# Altium footprint library Molex Footprints.PcbLib: 498 footprints (part 23 of 32)
Each footprint in its own frame and in the unit in brackets; x right, y up, seen from the top. Pads: shape width x height; smd on the part's side, far side on the other; paste and mask are expansions set on the pad; w line width, h text height; cw(c..) or ccw(c..) is an arc to the next point about the centre after c.
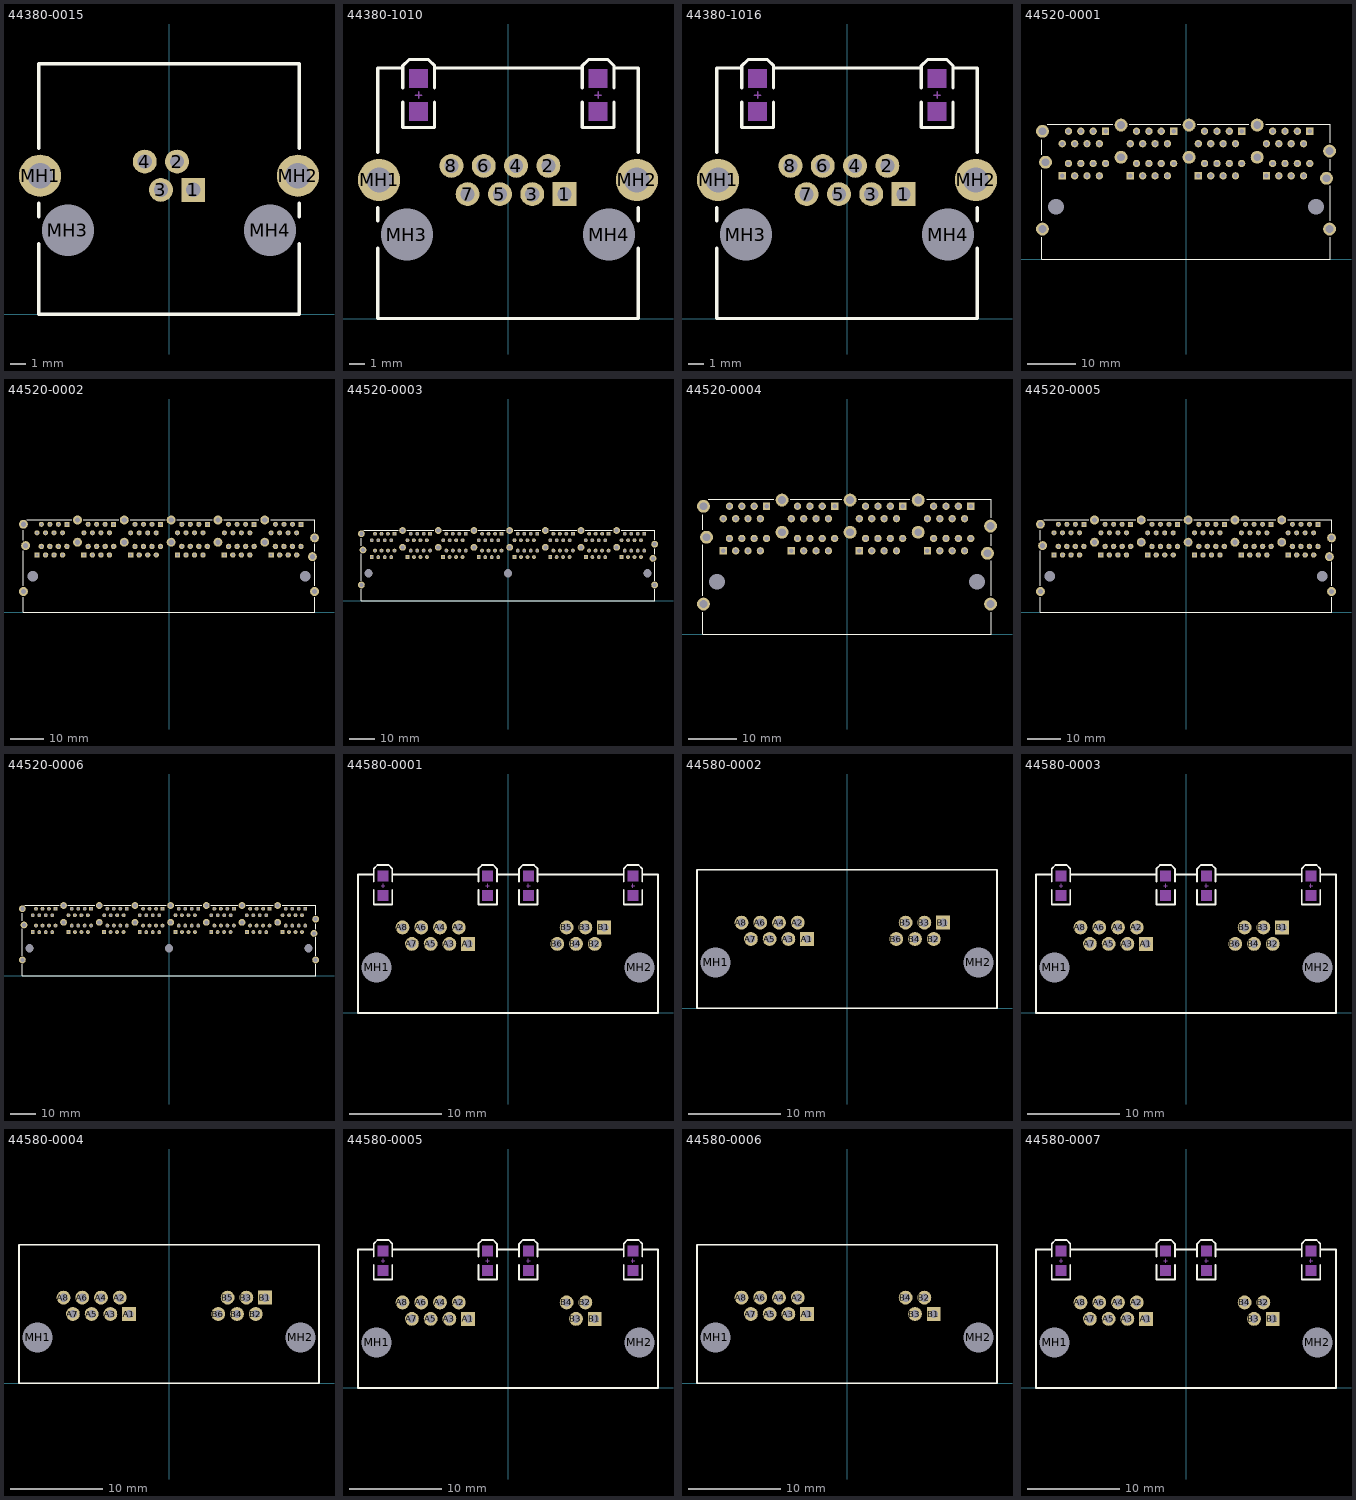
[diagram p22: the footprints below, top view; thin cyan lines are the x and y axes]

## 44380-0015 [mm] "Connector; PCB Jack, Thru-Hole; 1-Port, 6 Positions, 4 Loaded; Shielded without Lightpipes; Right Angle"
height 13.53
pads (8):
  rect 1.5x1.5 hole 0.9: 1(1.524,7.82)
  round 1.5 hole 0.9: 2(0.508,9.598) 3(-0.508,7.82) 4(-1.524,9.598)
  round 2.65 hole 1.6: MH1(-8.103,8.709) MH2(8.103,8.709)
  round 2.95 hole 3.25 unplated: MH3(-6.35,5.28) MH4(6.35,5.28)
Top Overlay:
  lines w0.2: -8.19,4.434 -8.19,0 8.19,0 8.19,4.434 ; -8.19,6.126 -8.19,6.986 ; -8.19,10.432 -8.19,15.75 8.19,15.75 8.19,10.432 ; 8.19,6.126 8.19,6.986

## 44380-1010 [mm] "Connector; PCB Jack, Thru-Hole; 1-Port, 8 Positions, 8 Loaded; Shielded with Lightpipes; Right Angle"
height 13.53
pads (12):
  rect 1.5x1.5 hole 0.9: 1(3.556,7.82)
  round 1.5 hole 0.9: 2(2.54,9.598) 3(1.524,7.82) 4(0.508,9.598) 5(-0.508,7.82) 6(-1.524,9.598) 7(-2.54,7.82) 8(-3.556,9.598)
  round 2.65 hole 1.6: MH1(-8.103,8.709) MH2(8.103,8.709)
  round 2.95 hole 3.25 unplated: MH3(-6.35,5.28) MH4(6.35,5.28)
Top Overlay:
  lines w0.2: -8.19,4.434 -8.19,0 8.19,0 8.19,4.434 ; -8.19,6.126 -8.19,6.986 ; -8.19,10.432 -8.19,15.75 -6.613,15.75 ; -6.613,13.602 -6.613,12.002 -4.613,12.002 -4.613,13.602 ; -6.613,14.484 -6.613,15.884 -6.213,16.284 -5.013,16.284 -4.613,15.884 -4.613,14.484 ; -4.613,15.75 4.664,15.75 ; 4.664,13.602 4.664,12.002 6.664,12.002 6.664,13.602 ; 4.664,14.484 4.664,15.884 5.064,16.284 6.264,16.284 6.664,15.884 6.664,14.484 ; 6.664,15.75 8.19,15.75 8.19,10.432 ; 8.19,6.126 8.19,6.986
Mechanical 1:
  rectangle: -6.213,12.402 -5.013,13.602
  rectangle: -6.213,14.484 -5.013,15.684
  rectangle: 5.064,12.402 6.264,13.602
  rectangle: 5.064,14.484 6.264,15.684
  lines w0.1: -5.813,14.043 -5.613,14.043 ; -5.613,13.843 -5.613,14.043 ; -5.613,14.243 -5.613,14.043 ; -5.413,14.043 -5.613,14.043 ; 5.464,14.043 5.664,14.043 ; 5.664,13.843 5.664,14.043 ; 5.664,14.243 5.664,14.043 ; 5.864,14.043 5.664,14.043

## 44380-1016 [mm] "Connector; PCB Jack, Thru-Hole; 1-Port, 8 Positions, 8 Loaded; Shielded with Lightpipes; Right Angle"
height 13.53
pads (12):
  rect 1.5x1.5 hole 0.9: 1(3.556,7.82)
  round 1.5 hole 0.9: 2(2.54,9.598) 3(1.524,7.82) 4(0.508,9.598) 5(-0.508,7.82) 6(-1.524,9.598) 7(-2.54,7.82) 8(-3.556,9.598)
  round 2.65 hole 1.6: MH1(-8.103,8.709) MH2(8.103,8.709)
  round 2.95 hole 3.25 unplated: MH3(-6.35,5.28) MH4(6.35,5.28)
Top Overlay:
  lines w0.2: -8.19,4.434 -8.19,0 8.19,0 8.19,4.434 ; -8.19,6.126 -8.19,6.986 ; -8.19,10.432 -8.19,15.75 -6.613,15.75 ; -6.613,13.602 -6.613,12.002 -4.613,12.002 -4.613,13.602 ; -6.613,14.484 -6.613,15.884 -6.213,16.284 -5.013,16.284 -4.613,15.884 -4.613,14.484 ; -4.613,15.75 4.664,15.75 ; 4.664,13.602 4.664,12.002 6.664,12.002 6.664,13.602 ; 4.664,14.484 4.664,15.884 5.064,16.284 6.264,16.284 6.664,15.884 6.664,14.484 ; 6.664,15.75 8.19,15.75 8.19,10.432 ; 8.19,6.126 8.19,6.986
Mechanical 1:
  rectangle: -6.213,12.402 -5.013,13.602
  rectangle: -6.213,14.484 -5.013,15.684
  rectangle: 5.064,12.402 6.264,13.602
  rectangle: 5.064,14.484 6.264,15.684
  lines w0.1: -5.813,14.043 -5.613,14.043 ; -5.613,13.843 -5.613,14.043 ; -5.613,14.243 -5.613,14.043 ; -5.413,14.043 -5.613,14.043 ; 5.464,14.043 5.664,14.043 ; 5.664,13.843 5.664,14.043 ; 5.664,14.243 5.664,14.043 ; 5.864,14.043 5.664,14.043

## 44520-0001 [mm] "Connector; PCB Jack, Thru-Hole; 8-Port, 8 Positions, 8 Loaded; Shielded without Lightpipes; Right Angle"
height 25.41
pads (78):
  rect 1.5x1.5 hole 0.9: A1(-16.51,26.294) B1(-2.54,26.294) C1(11.43,26.294) D1(25.4,26.294) E1(-25.4,17.15) F1(-11.43,17.15) G1(2.54,17.15) H1(16.51,17.15)
  round 1.5 hole 0.9: A2(-17.78,23.754) A3(-19.05,26.294) A4(-20.32,23.754) A5(-21.59,26.294) A6(-22.86,23.754) A7(-24.13,26.294) A8(-25.4,23.754) B2(-3.81,23.754) B3(-5.08,26.294) B4(-6.35,23.754) B5(-7.62,26.294) B6(-8.89,23.754) B7(-10.16,26.294) B8(-11.43,23.754) C2(10.16,23.754) C3(8.89,26.294) C4(7.62,23.754) C5(6.35,26.294) C6(5.08,23.754) C7(3.81,26.294) C8(2.54,23.754) D2(24.13,23.754) D3(22.86,26.294) D4(21.59,23.754) D5(20.32,26.294) D6(19.05,23.754) D7(17.78,26.294) D8(16.51,23.754) E2(-24.13,19.69) E3(-22.86,17.15) E4(-21.59,19.69) E5(-20.32,17.15) E6(-19.05,19.69) E7(-17.78,17.15) E8(-16.51,19.69) F2(-10.16,19.69) F3(-8.89,17.15) F4(-7.62,19.69) F5(-6.35,17.15) F6(-5.08,19.69) F7(-3.81,17.15) F8(-2.54,19.69) G2(3.81,19.69) G3(5.08,17.15) G4(6.35,19.69) G5(7.62,17.15) G6(8.89,19.69) G7(10.16,17.15) G8(11.43,19.69) H2(17.78,19.69) H3(19.05,17.15) H4(20.32,19.69) H5(21.59,17.15) H6(22.86,19.69) H7(24.13,17.15) H8(25.4,19.69)
  round 2.65 hole 1.6: MH1(-29.464,26.294) MH2(-13.335,27.564) MH3(0.635,27.564) MH4(14.605,27.564) MH5(29.464,22.23) MH6(-28.829,19.944) MH7(-13.335,20.96) MH8(0.635,20.96) MH9(14.605,20.96) MH10(28.829,16.642) MH11(-29.464,6.228) MH12(29.464,6.228)
  round 2.95 hole 3.25 unplated: MH13(-26.67,10.8) MH14(26.67,10.8)
Top Overlay:
  lines w0.2: -29.59,4.508 -29.59,0 29.59,0 29.59,4.508 ; -29.59,7.948 -29.59,18.396 ; -29.59,21.492 -29.59,24.574 ; -28.451,27.69 -15.055,27.69 ; -11.615,27.69 -1.085,27.69 ; 2.355,27.69 12.885,27.69 ; 16.325,27.69 29.59,27.69 29.59,23.95 ; 29.59,7.948 29.59,15.094 ; 29.59,18.19 29.59,20.51

## 44520-0002 [mm] "Connector; PCB Jack, Thru-Hole; 12-Port, 8 Positions, 8 Loaded; Shielded without Lightpipes; Right Angle"
height 25.41
pads (114):
  rect 1.5x1.5 hole 0.9: A1(-30.48,26.294) B1(-16.51,26.294) C1(-2.54,26.294) D1(11.43,26.294) E1(25.4,26.294) F1(39.37,26.294)
  round 1.5 hole 0.9: A2(-31.75,23.754) A3(-33.02,26.294) A4(-34.29,23.754) A5(-35.56,26.294) A6(-36.83,23.754) A7(-38.1,26.294) A8(-39.37,23.754) B2(-17.78,23.754) B3(-19.05,26.294) B4(-20.32,23.754) B5(-21.59,26.294) B6(-22.86,23.754) B7(-24.13,26.294) B8(-25.4,23.754) C2(-3.81,23.754) C3(-5.08,26.294) C4(-6.35,23.754) C5(-7.62,26.294) C6(-8.89,23.754) C7(-10.16,26.294) C8(-11.43,23.754) D2(10.16,23.754) D3(8.89,26.294) D4(7.62,23.754) D5(6.35,26.294) D6(5.08,23.754) D7(3.81,26.294) D8(2.54,23.754) E2(24.13,23.754) E3(22.86,26.294) E4(21.59,23.754) E5(20.32,26.294) E6(19.05,23.754) E7(17.78,26.294) E8(16.51,23.754) F2(38.1,23.754) F3(36.83,26.294) F4(35.56,23.754) F5(34.29,26.294) F6(33.02,23.754) F7(31.75,26.294) F8(30.48,23.754)
  rect 1.6x1.6 hole 0.9: G1(-39.37,17.15) H1(-25.4,17.15) I1(-11.43,17.15) J1(2.54,17.15) K1(16.51,17.15) L1(30.48,17.15)
  round 1.6 hole 0.9: G2(-38.1,19.69) G3(-36.83,17.15) G4(-35.56,19.69) G5(-34.29,17.15) G6(-33.02,19.69) G7(-31.75,17.15) G8(-30.48,19.69) H2(-24.13,19.69) H3(-22.86,17.15) H4(-21.59,19.69) H5(-20.32,17.15) H6(-19.05,19.69) H7(-17.78,17.15) H8(-16.51,19.69) I2(-10.16,19.69) I3(-8.89,17.15) I4(-7.62,19.69) I5(-6.35,17.15) I6(-5.08,19.69) I7(-3.81,17.15) I8(-2.54,19.69) J2(3.81,19.69) J3(5.08,17.15) J4(6.35,19.69) J5(7.62,17.15) J6(8.89,19.69) J7(10.16,17.15) J8(11.43,19.69) K2(17.78,19.69) K3(19.05,17.15) K4(20.32,19.69) K5(21.59,17.15) K6(22.86,19.69) K7(24.13,17.15) K8(25.4,19.69) L2(31.75,19.69) L3(33.02,17.15) L4(34.29,19.69) L5(35.56,17.15) L6(36.83,19.69) L7(38.1,17.15) L8(39.37,19.69)
  round 2.65 hole 1.6: MH1(-43.434,26.294) MH2(-27.305,27.564) MH3(-13.335,27.564) MH4(0.635,27.564) MH5(14.605,27.564) MH6(28.575,27.564) MH7(43.434,22.23) MH8(-42.799,19.944) MH9(-27.305,20.96) MH10(-13.335,20.96) MH11(0.635,20.96) MH12(14.605,20.96) MH13(28.575,20.96) MH14(42.799,16.642) MH15(-43.434,6.228) MH16(43.434,6.228)
  round 2.95 hole 3.25 unplated: MH17(-40.64,10.8) MH18(40.64,10.8)
Top Overlay:
  lines w0.2: -43.56,4.508 -43.56,0 43.56,0 43.56,4.508 ; -43.56,7.948 -43.56,18.396 ; -43.56,21.492 -43.56,24.574 ; -42.421,27.69 -29.025,27.69 ; -25.585,27.69 -15.055,27.69 ; -11.615,27.69 -1.085,27.69 ; 2.355,27.69 12.885,27.69 ; 16.325,27.69 26.855,27.69 ; 30.295,27.69 43.56,27.69 43.56,23.95 ; 43.56,7.948 43.56,15.094 ; 43.56,18.19 43.56,20.51

## 44520-0003 [mm] "Connector; PCB Jack, Thru-Hole; 16-Port, 8 Positions, 8 Loaded; Shielded without Lightpipes; Right Angle"
height 25.41
pads (151):
  rect 1.5x1.5 hole 0.9: A1(-44.45,26.294) B1(-30.48,26.294) C1(-16.51,26.294) D1(-2.54,26.294) E1(11.43,26.294) F1(25.4,26.294) G1(39.37,26.294) H1(53.34,26.294) I1(-53.34,17.15) J1(-39.37,17.15) K1(-25.4,17.15) L1(-11.43,17.15) M1(2.54,17.15) N1(16.51,17.15) O1(30.48,17.15) P1(44.45,17.15)
  round 1.5 hole 0.9: A2(-45.72,23.754) A3(-46.99,26.294) A4(-48.26,23.754) A5(-49.53,26.294) A6(-50.8,23.754) A7(-52.07,26.294) A8(-53.34,23.754) B2(-31.75,23.754) B3(-33.02,26.294) B4(-34.29,23.754) B5(-35.56,26.294) B6(-36.83,23.754) B7(-38.1,26.294) B8(-39.37,23.754) C2(-17.78,23.754) C3(-19.05,26.294) C4(-20.32,23.754) C5(-21.59,26.294) C6(-22.86,23.754) C7(-24.13,26.294) C8(-25.4,23.754) D2(-3.81,23.754) D3(-5.08,26.294) D4(-6.35,23.754) D5(-7.62,26.294) D6(-8.89,23.754) D7(-10.16,26.294) D8(-11.43,23.754) E2(10.16,23.754) E3(8.89,26.294) E4(7.62,23.754) E5(6.35,26.294) E6(5.08,23.754) E7(3.81,26.294) E8(2.54,23.754) F2(24.13,23.754) F3(22.86,26.294) F4(21.59,23.754) F5(20.32,26.294) F6(19.05,23.754) F7(17.78,26.294) F8(16.51,23.754) G2(38.1,23.754) G3(36.83,26.294) G4(35.56,23.754) G5(34.29,26.294) G6(33.02,23.754) G7(31.75,26.294) G8(30.48,23.754) H2(52.07,23.754) H3(50.8,26.294) H4(49.53,23.754) H5(48.26,26.294) H6(46.99,23.754) H7(45.72,26.294) H8(44.45,23.754) I2(-52.07,19.69) I3(-50.8,17.15) I4(-49.53,19.69) I5(-48.26,17.15) I6(-46.99,19.69) I7(-45.72,17.15) I8(-44.45,19.69) J2(-38.1,19.69) J3(-36.83,17.15) J4(-35.56,19.69) J5(-34.29,17.15) J6(-33.02,19.69) J7(-31.75,17.15) J8(-30.48,19.69) K2(-24.13,19.69) K3(-22.86,17.15) K4(-21.59,19.69) K5(-20.32,17.15) K6(-19.05,19.69) K7(-17.78,17.15) K8(-16.51,19.69) L2(-10.16,19.69) L3(-8.89,17.15) L4(-7.62,19.69) L5(-6.35,17.15) L6(-5.08,19.69) L7(-3.81,17.15) L8(-2.54,19.69) M2(3.81,19.69) M3(5.08,17.15) M4(6.35,19.69) M5(7.62,17.15) M6(8.89,19.69) M7(10.16,17.15) M8(11.43,19.69) N2(17.78,19.69) N3(19.05,17.15) N4(20.32,19.69) N5(21.59,17.15) N6(22.86,19.69) N7(24.13,17.15) N8(25.4,19.69) O2(31.75,19.69) O3(33.02,17.15) O4(34.29,19.69) O5(35.56,17.15) O6(36.83,19.69) O7(38.1,17.15) O8(39.37,19.69) P2(45.72,19.69) P3(46.99,17.15) P4(48.26,19.69) P5(49.53,17.15) P6(50.8,19.69) P7(52.07,17.15) P8(53.34,19.69)
  round 2.65 hole 1.6: MH1(-57.404,26.294) MH2(-41.275,27.564) MH3(-27.305,27.564) MH4(-13.335,27.564) MH5(0.635,27.564) MH6(14.605,27.564) MH7(28.575,27.564) MH8(42.545,27.564) MH9(57.404,22.23) MH10(-56.769,19.944) MH11(-41.275,20.96) MH12(-27.305,20.96) MH13(-13.335,20.96) MH14(0.635,20.96) MH15(14.605,20.96) MH16(28.575,20.96) MH17(42.545,20.96) MH18(56.769,16.642) MH19(-57.404,6.228) MH20(57.404,6.228)
  round 2.95 hole 3.25 unplated: MH21(-54.61,10.8) MH22(0,10.8) MH23(54.61,10.8)
Top Overlay:
  lines w0.2: -57.53,4.508 -57.53,0 57.53,0 57.53,4.508 ; -57.53,7.948 -57.53,18.396 ; -57.53,21.492 -57.53,24.574 ; -56.391,27.69 -42.995,27.69 ; -39.555,27.69 -29.025,27.69 ; -25.585,27.69 -15.055,27.69 ; -11.615,27.69 -1.085,27.69 ; 2.355,27.69 12.885,27.69 ; 16.325,27.69 26.855,27.69 ; 30.295,27.69 40.825,27.69 ; 44.265,27.69 57.53,27.69 57.53,23.95 ; 57.53,7.948 57.53,15.094 ; 57.53,18.19 57.53,20.51

## 44520-0004 [mm] "Connector; PCB Jack, Thru-Hole; 8-Port, 8 Positions, 8 Loaded; Shielded without Lightpipes; Right Angle"
height 25.41
pads (78):
  rect 1.5x1.5 hole 0.9: A1(-16.51,26.294) B1(-2.54,26.294) C1(11.43,26.294) D1(25.4,26.294) E1(-25.4,17.15) F1(-11.43,17.15) G1(2.54,17.15) H1(16.51,17.15)
  round 1.5 hole 0.9: A2(-17.78,23.754) A3(-19.05,26.294) A4(-20.32,23.754) A5(-21.59,26.294) A6(-22.86,23.754) A7(-24.13,26.294) A8(-25.4,23.754) B2(-3.81,23.754) B3(-5.08,26.294) B4(-6.35,23.754) B5(-7.62,26.294) B6(-8.89,23.754) B7(-10.16,26.294) B8(-11.43,23.754) C2(10.16,23.754) C3(8.89,26.294) C4(7.62,23.754) C5(6.35,26.294) C6(5.08,23.754) C7(3.81,26.294) C8(2.54,23.754) D2(24.13,23.754) D3(22.86,26.294) D4(21.59,23.754) D5(20.32,26.294) D6(19.05,23.754) D7(17.78,26.294) D8(16.51,23.754) E2(-24.13,19.69) E3(-22.86,17.15) E4(-21.59,19.69) E5(-20.32,17.15) E6(-19.05,19.69) E7(-17.78,17.15) E8(-16.51,19.69) F2(-10.16,19.69) F3(-8.89,17.15) F4(-7.62,19.69) F5(-6.35,17.15) F6(-5.08,19.69) F7(-3.81,17.15) F8(-2.54,19.69) G2(3.81,19.69) G3(5.08,17.15) G4(6.35,19.69) G5(7.62,17.15) G6(8.89,19.69) G7(10.16,17.15) G8(11.43,19.69) H2(17.78,19.69) H3(19.05,17.15) H4(20.32,19.69) H5(21.59,17.15) H6(22.86,19.69) H7(24.13,17.15) H8(25.4,19.69)
  round 2.65 hole 1.6: MH1(-29.464,26.294) MH2(-13.335,27.564) MH3(0.635,27.564) MH4(14.605,27.564) MH5(29.464,22.23) MH6(-28.829,19.944) MH7(-13.335,20.96) MH8(0.635,20.96) MH9(14.605,20.96) MH10(28.829,16.642) MH11(-29.464,6.228) MH12(29.464,6.228)
  round 2.95 hole 3.25 unplated: MH13(-26.67,10.8) MH14(26.67,10.8)
Top Overlay:
  lines w0.2: -29.59,4.508 -29.59,0 29.59,0 29.59,4.508 ; -29.59,7.948 -29.59,18.396 ; -29.59,21.492 -29.59,24.574 ; -28.451,27.69 -15.055,27.69 ; -11.615,27.69 -1.085,27.69 ; 2.355,27.69 12.885,27.69 ; 16.325,27.69 29.59,27.69 29.59,23.95 ; 29.59,7.948 29.59,15.094 ; 29.59,18.19 29.59,20.51

## 44520-0005 [mm] "Connector; PCB Jack, Thru-Hole; 12-Port, 8 Positions, 8 Loaded; Shielded without Lightpipes; Right Angle"
height 25.41
pads (114):
  rect 1.5x1.5 hole 0.9: A1(-30.48,26.294) B1(-16.51,26.294) C1(-2.54,26.294) D1(11.43,26.294) E1(25.4,26.294) F1(39.37,26.294)
  round 1.5 hole 0.9: A2(-31.75,23.754) A3(-33.02,26.294) A4(-34.29,23.754) A5(-35.56,26.294) A6(-36.83,23.754) A7(-38.1,26.294) A8(-39.37,23.754) B2(-17.78,23.754) B3(-19.05,26.294) B4(-20.32,23.754) B5(-21.59,26.294) B6(-22.86,23.754) B7(-24.13,26.294) B8(-25.4,23.754) C2(-3.81,23.754) C3(-5.08,26.294) C4(-6.35,23.754) C5(-7.62,26.294) C6(-8.89,23.754) C7(-10.16,26.294) C8(-11.43,23.754) D2(10.16,23.754) D3(8.89,26.294) D4(7.62,23.754) D5(6.35,26.294) D6(5.08,23.754) D7(3.81,26.294) D8(2.54,23.754) E2(24.13,23.754) E3(22.86,26.294) E4(21.59,23.754) E5(20.32,26.294) E6(19.05,23.754) E7(17.78,26.294) E8(16.51,23.754) F2(38.1,23.754) F3(36.83,26.294) F4(35.56,23.754) F5(34.29,26.294) F6(33.02,23.754) F7(31.75,26.294) F8(30.48,23.754)
  rect 1.6x1.6 hole 0.9: G1(-39.37,17.15) H1(-25.4,17.15) I1(-11.43,17.15) J1(2.54,17.15) K1(16.51,17.15) L1(30.48,17.15)
  round 1.6 hole 0.9: G2(-38.1,19.69) G3(-36.83,17.15) G4(-35.56,19.69) G5(-34.29,17.15) G6(-33.02,19.69) G7(-31.75,17.15) G8(-30.48,19.69) H2(-24.13,19.69) H3(-22.86,17.15) H4(-21.59,19.69) H5(-20.32,17.15) H6(-19.05,19.69) H7(-17.78,17.15) H8(-16.51,19.69) I2(-10.16,19.69) I3(-8.89,17.15) I4(-7.62,19.69) I5(-6.35,17.15) I6(-5.08,19.69) I7(-3.81,17.15) I8(-2.54,19.69) J2(3.81,19.69) J3(5.08,17.15) J4(6.35,19.69) J5(7.62,17.15) J6(8.89,19.69) J7(10.16,17.15) J8(11.43,19.69) K2(17.78,19.69) K3(19.05,17.15) K4(20.32,19.69) K5(21.59,17.15) K6(22.86,19.69) K7(24.13,17.15) K8(25.4,19.69) L2(31.75,19.69) L3(33.02,17.15) L4(34.29,19.69) L5(35.56,17.15) L6(36.83,19.69) L7(38.1,17.15) L8(39.37,19.69)
  round 2.65 hole 1.6: MH1(-43.434,26.294) MH2(-27.305,27.564) MH3(-13.335,27.564) MH4(0.635,27.564) MH5(14.605,27.564) MH6(28.575,27.564) MH7(43.434,22.23) MH8(-42.799,19.944) MH9(-27.305,20.96) MH10(-13.335,20.96) MH11(0.635,20.96) MH12(14.605,20.96) MH13(28.575,20.96) MH14(42.799,16.642) MH15(-43.434,6.228) MH16(43.434,6.228)
  round 2.95 hole 3.25 unplated: MH17(-40.64,10.8) MH18(40.64,10.8)
Top Overlay:
  lines w0.2: -43.56,4.508 -43.56,0 43.56,0 43.56,4.508 ; -43.56,7.948 -43.56,18.396 ; -43.56,21.492 -43.56,24.574 ; -42.421,27.69 -29.025,27.69 ; -25.585,27.69 -15.055,27.69 ; -11.615,27.69 -1.085,27.69 ; 2.355,27.69 12.885,27.69 ; 16.325,27.69 26.855,27.69 ; 30.295,27.69 43.56,27.69 43.56,23.95 ; 43.56,7.948 43.56,15.094 ; 43.56,18.19 43.56,20.51

## 44520-0006 [mm] "Connector; PCB Jack, Thru-Hole; 16-Port, 8 Positions, 8 Loaded; Shielded without Lightpipes; Right Angle"
height 25.41
pads (151):
  rect 1.5x1.5 hole 0.9: A1(-44.45,26.294) B1(-30.48,26.294) C1(-16.51,26.294) D1(-2.54,26.294) E1(11.43,26.294) F1(25.4,26.294) G1(39.37,26.294) H1(53.34,26.294) I1(-53.34,17.15) J1(-39.37,17.15) K1(-25.4,17.15) L1(-11.43,17.15) M1(2.54,17.15) N1(16.51,17.15) O1(30.48,17.15) P1(44.45,17.15)
  round 1.5 hole 0.9: A2(-45.72,23.754) A3(-46.99,26.294) A4(-48.26,23.754) A5(-49.53,26.294) A6(-50.8,23.754) A7(-52.07,26.294) A8(-53.34,23.754) B2(-31.75,23.754) B3(-33.02,26.294) B4(-34.29,23.754) B5(-35.56,26.294) B6(-36.83,23.754) B7(-38.1,26.294) B8(-39.37,23.754) C2(-17.78,23.754) C3(-19.05,26.294) C4(-20.32,23.754) C5(-21.59,26.294) C6(-22.86,23.754) C7(-24.13,26.294) C8(-25.4,23.754) D2(-3.81,23.754) D3(-5.08,26.294) D4(-6.35,23.754) D5(-7.62,26.294) D6(-8.89,23.754) D7(-10.16,26.294) D8(-11.43,23.754) E2(10.16,23.754) E3(8.89,26.294) E4(7.62,23.754) E5(6.35,26.294) E6(5.08,23.754) E7(3.81,26.294) E8(2.54,23.754) F2(24.13,23.754) F3(22.86,26.294) F4(21.59,23.754) F5(20.32,26.294) F6(19.05,23.754) F7(17.78,26.294) F8(16.51,23.754) G2(38.1,23.754) G3(36.83,26.294) G4(35.56,23.754) G5(34.29,26.294) G6(33.02,23.754) G7(31.75,26.294) G8(30.48,23.754) H2(52.07,23.754) H3(50.8,26.294) H4(49.53,23.754) H5(48.26,26.294) H6(46.99,23.754) H7(45.72,26.294) H8(44.45,23.754) I2(-52.07,19.69) I3(-50.8,17.15) I4(-49.53,19.69) I5(-48.26,17.15) I6(-46.99,19.69) I7(-45.72,17.15) I8(-44.45,19.69) J2(-38.1,19.69) J3(-36.83,17.15) J4(-35.56,19.69) J5(-34.29,17.15) J6(-33.02,19.69) J7(-31.75,17.15) J8(-30.48,19.69) K2(-24.13,19.69) K3(-22.86,17.15) K4(-21.59,19.69) K5(-20.32,17.15) K6(-19.05,19.69) K7(-17.78,17.15) K8(-16.51,19.69) L2(-10.16,19.69) L3(-8.89,17.15) L4(-7.62,19.69) L5(-6.35,17.15) L6(-5.08,19.69) L7(-3.81,17.15) L8(-2.54,19.69) M2(3.81,19.69) M3(5.08,17.15) M4(6.35,19.69) M5(7.62,17.15) M6(8.89,19.69) M7(10.16,17.15) M8(11.43,19.69) N2(17.78,19.69) N3(19.05,17.15) N4(20.32,19.69) N5(21.59,17.15) N6(22.86,19.69) N7(24.13,17.15) N8(25.4,19.69) O2(31.75,19.69) O3(33.02,17.15) O4(34.29,19.69) O5(35.56,17.15) O6(36.83,19.69) O7(38.1,17.15) O8(39.37,19.69) P2(45.72,19.69) P3(46.99,17.15) P4(48.26,19.69) P5(49.53,17.15) P6(50.8,19.69) P7(52.07,17.15) P8(53.34,19.69)
  round 2.65 hole 1.6: MH1(-57.404,26.294) MH2(-41.275,27.564) MH3(-27.305,27.564) MH4(-13.335,27.564) MH5(0.635,27.564) MH6(14.605,27.564) MH7(28.575,27.564) MH8(42.545,27.564) MH9(57.404,22.23) MH10(-56.769,19.944) MH11(-41.275,20.96) MH12(-27.305,20.96) MH13(-13.335,20.96) MH14(0.635,20.96) MH15(14.605,20.96) MH16(28.575,20.96) MH17(42.545,20.96) MH18(56.769,16.642) MH19(-57.404,6.228) MH20(57.404,6.228)
  round 2.95 hole 3.25 unplated: MH21(-54.61,10.8) MH22(0,10.8) MH23(54.61,10.8)
Top Overlay:
  lines w0.2: -57.53,4.508 -57.53,0 57.53,0 57.53,4.508 ; -57.53,7.948 -57.53,18.396 ; -57.53,21.492 -57.53,24.574 ; -56.391,27.69 -42.995,27.69 ; -39.555,27.69 -29.025,27.69 ; -25.585,27.69 -15.055,27.69 ; -11.615,27.69 -1.085,27.69 ; 2.355,27.69 12.885,27.69 ; 16.325,27.69 26.855,27.69 ; 30.295,27.69 40.825,27.69 ; 44.265,27.69 57.53,27.69 57.53,23.95 ; 57.53,7.948 57.53,15.094 ; 57.53,18.19 57.53,20.51

## 44580-0001 [mm] "Connector; PCB Jack, Thru-Hole; 2-Port; Unshielded with Lightpipes; Right Angle"
height 13.21
pads (16):
  rect 1.5x1.5 hole 0.9: A1(-4.318,7.49) B1(10.414,9.268)
  round 1.5 hole 0.9: A2(-5.334,9.268) A3(-6.35,7.49) A4(-7.366,9.268) A5(-8.382,7.49) A6(-9.398,9.268) A7(-10.414,7.49) A8(-11.43,9.268) B2(9.398,7.49) B3(8.382,9.268) B4(7.366,7.49) B5(6.35,9.268) B6(5.334,7.49)
  round 2.95 hole 3.25 unplated: MH1(-14.224,4.95) MH2(14.224,4.95)
Top Overlay:
  lines w0.2: -14.538,13.348 -14.538,11.748 -12.538,11.748 -12.538,13.348 ; -14.538,14.231 -14.538,15.631 -14.138,16.031 -12.938,16.031 -12.538,15.631 -12.538,14.231 ; -14.538,14.99 -16.249,14.99 -16.249,0 16.249,0 16.249,14.99 14.538,14.99 ; -12.538,14.99 -3.21,14.99 ; -3.21,13.348 -3.21,11.748 -1.21,11.748 -1.21,13.348 ; -3.21,14.231 -3.21,15.631 -2.81,16.031 -1.61,16.031 -1.21,15.631 -1.21,14.231 ; -1.21,14.99 1.21,14.99 ; 1.21,13.348 1.21,11.748 3.21,11.748 3.21,13.348 ; 1.21,14.231 1.21,15.631 1.61,16.031 2.81,16.031 3.21,15.631 3.21,14.231 ; 3.21,14.99 12.538,14.99 ; 12.538,13.348 12.538,11.748 14.538,11.748 14.538,13.348 ; 12.538,14.231 12.538,15.631 12.938,16.031 14.138,16.031 14.538,15.631 14.538,14.231
Mechanical 1:
  rectangle: -14.138,12.148 -12.938,13.348
  rectangle: -14.138,14.231 -12.938,15.431
  rectangle: -2.81,12.148 -1.61,13.348
  rectangle: -2.81,14.231 -1.61,15.431
  rectangle: 1.61,12.148 2.81,13.348
  rectangle: 1.61,14.231 2.81,15.431
  rectangle: 12.938,12.148 14.138,13.348
  rectangle: 12.938,14.231 14.138,15.431
  lines w0.1: -13.738,13.789 -13.538,13.789 ; -13.538,13.589 -13.538,13.789 ; -13.538,13.989 -13.538,13.789 ; -13.338,13.789 -13.538,13.789 ; -2.41,13.789 -2.21,13.789 ; -2.21,13.589 -2.21,13.789 ; -2.21,13.989 -2.21,13.789 ; -2.01,13.789 -2.21,13.789 ; 2.01,13.789 2.21,13.789 ; 2.21,13.589 2.21,13.789 ; 2.21,13.989 2.21,13.789 ; 2.41,13.789 2.21,13.789 ; 13.338,13.789 13.538,13.789 ; 13.538,13.589 13.538,13.789 ; 13.538,13.989 13.538,13.789 ; 13.738,13.789 13.538,13.789

## 44580-0002 [mm] "Connector; PCB Jack, Thru-Hole; 2-Port; Unshielded without Lightpipes; Right Angle"
height 13.21
pads (16):
  rect 1.5x1.5 hole 0.9: A1(-4.318,7.49) B1(10.414,9.268)
  round 1.5 hole 0.9: A2(-5.334,9.268) A3(-6.35,7.49) A4(-7.366,9.268) A5(-8.382,7.49) A6(-9.398,9.268) A7(-10.414,7.49) A8(-11.43,9.268) B2(9.398,7.49) B3(8.382,9.268) B4(7.366,7.49) B5(6.35,9.268) B6(5.334,7.49)
  round 2.95 hole 3.25 unplated: MH1(-14.224,4.95) MH2(14.224,4.95)
Top Overlay:
  lines w0.2: -16.249,0 -16.249,14.99 16.249,14.99 16.249,0 -16.249,0

## 44580-0003 [mm] "Connector; PCB Jack, Thru-Hole; 2-Port; Unshielded with Lightpipes; Right Angle"
height 13.21
pads (16):
  rect 1.5x1.5 hole 0.9: A1(-4.318,7.49) B1(10.414,9.268)
  round 1.5 hole 0.9: A2(-5.334,9.268) A3(-6.35,7.49) A4(-7.366,9.268) A5(-8.382,7.49) A6(-9.398,9.268) A7(-10.414,7.49) A8(-11.43,9.268) B2(9.398,7.49) B3(8.382,9.268) B4(7.366,7.49) B5(6.35,9.268) B6(5.334,7.49)
  round 2.95 hole 3.25 unplated: MH1(-14.224,4.95) MH2(14.224,4.95)
Top Overlay:
  lines w0.2: -14.538,13.348 -14.538,11.748 -12.538,11.748 -12.538,13.348 ; -14.538,14.231 -14.538,15.631 -14.138,16.031 -12.938,16.031 -12.538,15.631 -12.538,14.231 ; -14.538,14.99 -16.249,14.99 -16.249,0 16.249,0 16.249,14.99 14.538,14.99 ; -12.538,14.99 -3.21,14.99 ; -3.21,13.348 -3.21,11.748 -1.21,11.748 -1.21,13.348 ; -3.21,14.231 -3.21,15.631 -2.81,16.031 -1.61,16.031 -1.21,15.631 -1.21,14.231 ; -1.21,14.99 1.21,14.99 ; 1.21,13.348 1.21,11.748 3.21,11.748 3.21,13.348 ; 1.21,14.231 1.21,15.631 1.61,16.031 2.81,16.031 3.21,15.631 3.21,14.231 ; 3.21,14.99 12.538,14.99 ; 12.538,13.348 12.538,11.748 14.538,11.748 14.538,13.348 ; 12.538,14.231 12.538,15.631 12.938,16.031 14.138,16.031 14.538,15.631 14.538,14.231
Mechanical 1:
  rectangle: -14.138,12.148 -12.938,13.348
  rectangle: -14.138,14.231 -12.938,15.431
  rectangle: -2.81,12.148 -1.61,13.348
  rectangle: -2.81,14.231 -1.61,15.431
  rectangle: 1.61,12.148 2.81,13.348
  rectangle: 1.61,14.231 2.81,15.431
  rectangle: 12.938,12.148 14.138,13.348
  rectangle: 12.938,14.231 14.138,15.431
  lines w0.1: -13.738,13.789 -13.538,13.789 ; -13.538,13.589 -13.538,13.789 ; -13.538,13.989 -13.538,13.789 ; -13.338,13.789 -13.538,13.789 ; -2.41,13.789 -2.21,13.789 ; -2.21,13.589 -2.21,13.789 ; -2.21,13.989 -2.21,13.789 ; -2.01,13.789 -2.21,13.789 ; 2.01,13.789 2.21,13.789 ; 2.21,13.589 2.21,13.789 ; 2.21,13.989 2.21,13.789 ; 2.41,13.789 2.21,13.789 ; 13.338,13.789 13.538,13.789 ; 13.538,13.589 13.538,13.789 ; 13.538,13.989 13.538,13.789 ; 13.738,13.789 13.538,13.789

## 44580-0004 [mm] "Connector; PCB Jack, Thru-Hole; 2-Port; Unshielded without Lightpipes; Right Angle"
height 13.21
pads (16):
  rect 1.5x1.5 hole 0.9: A1(-4.318,7.49) B1(10.414,9.268)
  round 1.5 hole 0.9: A2(-5.334,9.268) A3(-6.35,7.49) A4(-7.366,9.268) A5(-8.382,7.49) A6(-9.398,9.268) A7(-10.414,7.49) A8(-11.43,9.268) B2(9.398,7.49) B3(8.382,9.268) B4(7.366,7.49) B5(6.35,9.268) B6(5.334,7.49)
  round 2.95 hole 3.25 unplated: MH1(-14.224,4.95) MH2(14.224,4.95)
Top Overlay:
  lines w0.2: -16.249,0 -16.249,14.99 16.249,14.99 16.249,0 -16.249,0

## 44580-0005 [mm] "Connector; PCB Jack, Thru-Hole; 2-Port; Unshielded with Lightpipes; Right Angle"
height 13.21
pads (14):
  rect 1.5x1.5 hole 0.9: A1(-4.318,7.49) B1(9.398,7.49)
  round 1.5 hole 0.9: A2(-5.334,9.268) A3(-6.35,7.49) A4(-7.366,9.268) A5(-8.382,7.49) A6(-9.398,9.268) A7(-10.414,7.49) A8(-11.43,9.268) B2(8.382,9.268) B3(7.366,7.49) B4(6.35,9.268)
  round 2.95 hole 3.25 unplated: MH1(-14.224,4.95) MH2(14.224,4.95)
Top Overlay:
  lines w0.2: -14.538,13.348 -14.538,11.748 -12.538,11.748 -12.538,13.348 ; -14.538,14.231 -14.538,15.631 -14.138,16.031 -12.938,16.031 -12.538,15.631 -12.538,14.231 ; -14.538,14.99 -16.249,14.99 -16.249,0 16.249,0 16.249,14.99 14.538,14.99 ; -12.538,14.99 -3.21,14.99 ; -3.21,13.348 -3.21,11.748 -1.21,11.748 -1.21,13.348 ; -3.21,14.231 -3.21,15.631 -2.81,16.031 -1.61,16.031 -1.21,15.631 -1.21,14.231 ; -1.21,14.99 1.21,14.99 ; 1.21,13.348 1.21,11.748 3.21,11.748 3.21,13.348 ; 1.21,14.231 1.21,15.631 1.61,16.031 2.81,16.031 3.21,15.631 3.21,14.231 ; 3.21,14.99 12.538,14.99 ; 12.538,13.348 12.538,11.748 14.538,11.748 14.538,13.348 ; 12.538,14.231 12.538,15.631 12.938,16.031 14.138,16.031 14.538,15.631 14.538,14.231
Mechanical 1:
  rectangle: -14.138,12.148 -12.938,13.348
  rectangle: -14.138,14.231 -12.938,15.431
  rectangle: -2.81,12.148 -1.61,13.348
  rectangle: -2.81,14.231 -1.61,15.431
  rectangle: 1.61,12.148 2.81,13.348
  rectangle: 1.61,14.231 2.81,15.431
  rectangle: 12.938,12.148 14.138,13.348
  rectangle: 12.938,14.231 14.138,15.431
  lines w0.1: -13.738,13.789 -13.538,13.789 ; -13.538,13.589 -13.538,13.789 ; -13.538,13.989 -13.538,13.789 ; -13.338,13.789 -13.538,13.789 ; -2.41,13.789 -2.21,13.789 ; -2.21,13.589 -2.21,13.789 ; -2.21,13.989 -2.21,13.789 ; -2.01,13.789 -2.21,13.789 ; 2.01,13.789 2.21,13.789 ; 2.21,13.589 2.21,13.789 ; 2.21,13.989 2.21,13.789 ; 2.41,13.789 2.21,13.789 ; 13.338,13.789 13.538,13.789 ; 13.538,13.589 13.538,13.789 ; 13.538,13.989 13.538,13.789 ; 13.738,13.789 13.538,13.789

## 44580-0006 [mm] "Connector; PCB Jack, Thru-Hole; 2-Port; Unshielded without Lightpipes; Right Angle"
height 13.21
pads (14):
  rect 1.5x1.5 hole 0.9: A1(-4.318,7.49) B1(9.398,7.49)
  round 1.5 hole 0.9: A2(-5.334,9.268) A3(-6.35,7.49) A4(-7.366,9.268) A5(-8.382,7.49) A6(-9.398,9.268) A7(-10.414,7.49) A8(-11.43,9.268) B2(8.382,9.268) B3(7.366,7.49) B4(6.35,9.268)
  round 2.95 hole 3.25 unplated: MH1(-14.224,4.95) MH2(14.224,4.95)
Top Overlay:
  lines w0.2: -16.249,0 16.249,0 16.249,14.99 -16.249,14.99 -16.249,0

## 44580-0007 [mm] "Connector; PCB Jack, Thru-Hole; 2-Port; Unshielded with Lightpipes; Right Angle"
height 13.21
pads (14):
  rect 1.5x1.5 hole 0.9: A1(-4.318,7.49) B1(9.398,7.49)
  round 1.5 hole 0.9: A2(-5.334,9.268) A3(-6.35,7.49) A4(-7.366,9.268) A5(-8.382,7.49) A6(-9.398,9.268) A7(-10.414,7.49) A8(-11.43,9.268) B2(8.382,9.268) B3(7.366,7.49) B4(6.35,9.268)
  round 2.95 hole 3.25 unplated: MH1(-14.224,4.95) MH2(14.224,4.95)
Top Overlay:
  lines w0.2: -14.538,13.348 -14.538,11.748 -12.538,11.748 -12.538,13.348 ; -14.538,14.231 -14.538,15.631 -14.138,16.031 -12.938,16.031 -12.538,15.631 -12.538,14.231 ; -14.538,14.99 -16.249,14.99 -16.249,0 16.249,0 16.249,14.99 14.538,14.99 ; -12.538,14.99 -3.21,14.99 ; -3.21,13.348 -3.21,11.748 -1.21,11.748 -1.21,13.348 ; -3.21,14.231 -3.21,15.631 -2.81,16.031 -1.61,16.031 -1.21,15.631 -1.21,14.231 ; -1.21,14.99 1.21,14.99 ; 1.21,13.348 1.21,11.748 3.21,11.748 3.21,13.348 ; 1.21,14.231 1.21,15.631 1.61,16.031 2.81,16.031 3.21,15.631 3.21,14.231 ; 3.21,14.99 12.538,14.99 ; 12.538,13.348 12.538,11.748 14.538,11.748 14.538,13.348 ; 12.538,14.231 12.538,15.631 12.938,16.031 14.138,16.031 14.538,15.631 14.538,14.231
Mechanical 1:
  rectangle: -14.138,12.148 -12.938,13.348
  rectangle: -14.138,14.231 -12.938,15.431
  rectangle: -2.81,12.148 -1.61,13.348
  rectangle: -2.81,14.231 -1.61,15.431
  rectangle: 1.61,12.148 2.81,13.348
  rectangle: 1.61,14.231 2.81,15.431
  rectangle: 12.938,12.148 14.138,13.348
  rectangle: 12.938,14.231 14.138,15.431
  lines w0.1: -13.738,13.789 -13.538,13.789 ; -13.538,13.589 -13.538,13.789 ; -13.538,13.989 -13.538,13.789 ; -13.338,13.789 -13.538,13.789 ; -2.41,13.789 -2.21,13.789 ; -2.21,13.589 -2.21,13.789 ; -2.21,13.989 -2.21,13.789 ; -2.01,13.789 -2.21,13.789 ; 2.01,13.789 2.21,13.789 ; 2.21,13.589 2.21,13.789 ; 2.21,13.989 2.21,13.789 ; 2.41,13.789 2.21,13.789 ; 13.338,13.789 13.538,13.789 ; 13.538,13.589 13.538,13.789 ; 13.538,13.989 13.538,13.789 ; 13.738,13.789 13.538,13.789